# Altium schematic symbol library I2C_Shield_1.SCHLIB: 21 symbols
Pins are listed as number, name and electrical type; pins without a type are passive.

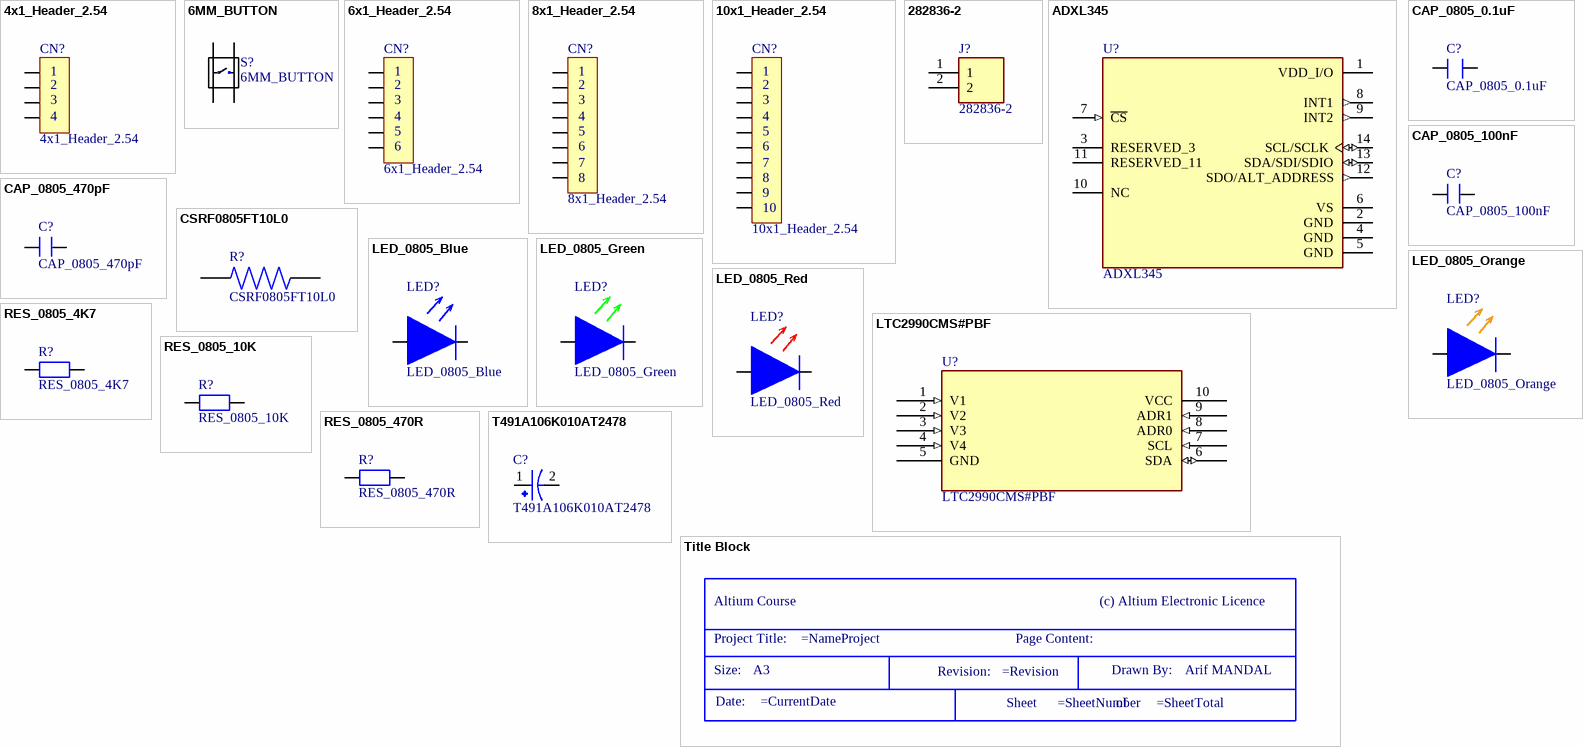
[diagram p0: symbols 4x1_Header_2.54 to Title Block]

## 4x1_Header_2.54
designator CN?
Oled Screen Header; Manufacturer: https://ozdisan.com/konnektor-ve-baglanti-elemanlari/header-konnektorler/disi-headerlar/DS1023-1X4S21/353863; Package Size: 4x1
footprint 4x1_2.54MM_HEADER
pins: 01, 02, 03, 04
text: 1; 2; 3; 4

## 6MM_BUTTON
designator S?
SWITCH TACT 6x6MM; Current: 50mA; Voltage Rating: 12V; Manufacturer: https://ozdisan.com/elektromekanik-komponentler/sivicler-ve-anahtarlar/tact-sivicler/DS1042-03-116-KKR-250-10/586990; Package Size: 6mmx6mm
footprint 6MM_TACTILE_SWITCH
pins: 1, 2, 3, 4

## 6x1_Header_2.54
designator CN?
Arduino Boards Connector; Manufacturer: https://www.e-komponent.com/arduino-boards-or-other-mcu-boards-connector?gad_source=4&gclid=CjwKCAjw74e1BhBnEiwAbqOAjEA8jWhKcu_OL1z7lHxmv6-QK3mXRxhYjeYuodVaUuIY0-tXQ3XZXRoCzkoQAvD_BwE; Package Size: 6x1
footprint 6x1_2.54MM_HEADER
pins: 01, 02, 03, 04, 05, 06
text: 1; 2; 3; 4; 5; 6

## 8x1_Header_2.54
designator CN?
Arduino Boards Connector; Manufacturer: https://www.e-komponent.com/arduino-boards-or-other-mcu-boards-connector?gad_source=4&gclid=CjwKCAjw74e1BhBnEiwAbqOAjEA8jWhKcu_OL1z7lHxmv6-QK3mXRxhYjeYuodVaUuIY0-tXQ3XZXRoCzkoQAvD_BwE; Package Size: 8x1
footprint 8x1_2.54MM_HEADER
pins: 01, 02, 03, 04, 05, 06, 07, 08
text: 1; 2; 3; 4; 5; 6; 7; 8

## 10x1_Header_2.54
designator CN?
Arduino Boards Connector; Manufacturer: https://www.e-komponent.com/arduino-boards-or-other-mcu-boards-connector?gad_source=4&gclid=CjwKCAjw74e1BhBnEiwAbqOAjEA8jWhKcu_OL1z7lHxmv6-QK3mXRxhYjeYuodVaUuIY0-tXQ3XZXRoCzkoQAvD_BwE; Package Size: 10x1
footprint 10x1_2.54MM_HEADER
pins: 01, 02, 03, 04, 05, 06, 07, 08, 09, 10
text: 1; 2; 3; 4; 5; 6; 7; 8; 9

## 282836-2
designator J?
Connector, Terminal Block; Wire Receptacle; 2 Pos.; 16-30 AWG; 0.197 in. CL; Sid; MF: TE Connectivity; Purchase-URL: https://pricing.snapeda.com/search/part/282836-2/?ref=eda; Value: *; MP: 282836-2; Package: None; Check_prices: https://www.snapeda.com/parts/282836-2/TE+Connectivity+AMP+Connectors/view-part/?ref=eda; Price: None; SnapEDA_Link: https://www.snapeda.com/parts/282836-2/TE+Connectivity+AMP+Connectors/view-part/?ref=snap; Availability: In Stock
footprint TE_282836-2
pins: 1, 2

## ADXL345
designator U?
Accelerometer X, Y, Z Axis ±2g, 4g, 8g, 16g 0.05Hz ~ 1.6kHz 14-LGA (3x5); MF: Analog Devices, Inc.; SnapEDA_Link: https://www.snapeda.com/parts/ADXL345/Analog+Devices/view-part/?ref=snap; Package: LGA -14 Analog Devices; Value: *; MP: ADXL345; Check_prices: https://www.snapeda.com/parts/ADXL345/Analog+Devices/view-part/?ref=eda
footprint PQFN80P500X300X100-14N
pins: 1 VDD_I/O (power), 2 GND (power), 3 RESERVED_3, 4 GND (power), 5 GND (power), 6 VS (power), 7 ~{CS} (in), 8 INT1 (out), 9 INT2 (out), 10 NC, 11 RESERVED_11, 12 SDO/ALT_ADDRESS (out), 13 SDA/SDI/SDIO (io), 14 SCL/SCLK (io)

## CAP_0805_0.1uF
designator C?
0805 0.1uF 16VDC ±10% X7R; Voltage Rating: 16V; Tolerance: %10; Package Size: 0805; Manufacturer: https://ozdisan.com/pasif-komponentler/kapasitorler/smt-smd-ve-mlcc-kapasitorler/CC0805KRX7R7BB104/748339; Dielectric: X7R
footprint CAP_0805 (Chip Capacitor, 2-Leads, Body 2,00x1,25mm, IPC Medium Density)
pins: 1, 2

## CAP_0805_100nF
designator C?
0805 100nF 16VDC ±10% X7R; Voltage Rating: 16V; Tolerance: %10; Package Size: 0805; Manufacturer: https://ozdisan.com/pasif-komponentler/kapasitorler/smt-smd-ve-mlcc-kapasitorler/CC0805KRX7R7BB104/748339; Dielectric: X7R
footprint CAP_0805 (Chip Capacitor, 2-Leads, Body 2,00x1,25mm, IPC Medium Density)
pins: 1, 2

## CAP_0805_470pF
designator C?
0805 470pF 16VDC ±10% X7R; Voltage Rating: 16V; Tolerance: %10; Package Size: 0805; Manufacturer: https://ozdisan.com/pasif-komponentler/kapasitorler/smt-smd-ve-mlcc-kapasitorler/CC0805KRX7R7BB104/748339; Dielectric: X7R
footprint CAP_0805 (Chip Capacitor, 2-Leads, Body 2,00x1,25mm, IPC Medium Density)
pins: 1, 2

## CSRF0805FT10L0
designator R?
Package: None; Price: None; Value: *; MP: CSRF0805FT10L0; Availability: Unavailable
footprint RESC2113X85N
footprint 0805_10M_SHUNT_RES
pins: 1, 2

## LED_0805_Blue
designator LED?
LED SMD 0805 BLUE 550mcd; Voltage Rating: 2.6; Current: 20mA; Package Size: 0805; Manufacturer: https://ozdisan.com/led-ve-aydinlatma-cozumleri/led-komponentler/sinyal-ledler-tek-renkli/HL-PSC-2012U51GC/471651
footprint LED_0805
pins: A, C

## LED_0805_Green
designator LED?
LED SMD 0805 GREEN 550mcd; Voltage Rating: 2.6; Current: 20mA; Package Size: 0805; Manufacturer: https://ozdisan.com/led-ve-aydinlatma-cozumleri/led-komponentler/sinyal-ledler-tek-renkli/HL-PSC-2012U51GC/471651
footprint LED_0805
pins: A, C

## LED_0805_Orange
designator LED?
LED SMD 0805 ORANGE 550mcd; Voltage Rating: 2.6; Current: 20mA; Package Size: 0805; Manufacturer: https://ozdisan.com/led-ve-aydinlatma-cozumleri/led-komponentler/sinyal-ledler-tek-renkli/HL-PSC-2012U51GC/471651
footprint LED_0805
pins: A, C

## LED_0805_Red
designator LED?
LED SMD 0805 RED 550mcd; Voltage Rating: 2.6; Current: 20mA; Package Size: 0805; Manufacturer: https://ozdisan.com/led-ve-aydinlatma-cozumleri/led-komponentler/sinyal-ledler-tek-renkli/HL-PSC-2012U51GC/471651
footprint LED_0805
pins: A, C

## LTC2990CMS#PBF
designator U?
Quad I2C Voltage, Current and Temperature Monitor; MF: Analog Devices; Price: None; MP: LTC2990CMS#PBF; Package: MSOP-10 Analog Devices; Value: *; Purchase-URL: https://pricing.snapeda.com/search/part/LTC2990CMS#PBF/?ref=eda; Availability: In Stock; Check_prices: https://www.snapeda.com/parts/LTC2990CMS%23PBF/Analog+Devices/view-part/?ref=eda; SnapEDA_Link: https://www.snapeda.com/parts/LTC2990CMS%23PBF/Analog+Devices/view-part/?ref=snap
footprint MSOP-10_MS
pins: 1 V1 (in), 2 V2 (in), 3 V3 (in), 4 V4 (in), 5 GND (power), 6 SDA (io), 7 SCL (in), 8 ADR0 (in), 9 ADR1 (in), 10 VCC (power)

## RES_0805_4K7
designator R?
0805 4K7 Ohms 5% 1/8W; Tolerance: %5; Voltage Rating: 150V; Manufacturer: https://ozdisan.com/pasif-komponentler/direncler/smt-smd-ve-cip-direncler/RC0805JR-0710KL/515420; Package Size: 0805
footprint RES_0805 (Chip Resistor, 2-Leads, Body 2,00x1,25mm, IPC Medium Density)
pins: 1, 2

## RES_0805_10K
designator R?
0805 10K Ohms 5% 1/8W; Tolerance: %5; Voltage Rating: 150V; Manufacturer: https://ozdisan.com/pasif-komponentler/direncler/smt-smd-ve-cip-direncler/RC0805JR-0710KL/515420; Package Size: 0805
footprint RES_0805 (Chip Resistor, 2-Leads, Body 2,00x1,25mm, IPC Medium Density)
pins: 1, 2

## RES_0805_470R
designator R?
0805 470 Ohms 5% 1/8W; Voltage Rating: 150V; Tolerance: %5; Manufacturer: https://ozdisan.com/pasif-komponentler/direncler/smt-smd-ve-cip-direncler/RC0805JR-07470RL/504397; Package Size: 0805
footprint RES_0805 (Chip Resistor, 2-Leads, Body 2,00x1,25mm, IPC Medium Density)
pins: 1, 2

## T491A106K010AT2478
designator C?
10 ÂµF Molded Tantalum Capacitors 10 V 1206 (3216 Metric) 3.8Ohm; MF: KEMET; Price: None; Value: *; MP: T491A106K010AT2478; Package: SMD-2 KEMET; Purchase-URL: https://pricing.snapeda.com/search/part/T491A106K010AT2478/?ref=eda; SnapEDA_Link: https://www.snapeda.com/parts/T491A106K010AT2478/KEMET/view-part/?ref=snap; Check_prices: https://www.snapeda.com/parts/T491A106K010AT2478/KEMET/view-part/?ref=eda; Availability: In Stock
footprint CAPMP3216X180N
pins: 1, 2

## Title Block
designator *?  Size: A3  Drawn By: Arif MANDAL  (hidden comment: Title Block)  (graphical)
text: Altium Course; (c) Altium Electronic Licence; Project Title:; Page Content:; Size:; Drawn By:; Revision:; Date:; Sheet; of